# EAGLE library part 613006216921 (library Wurth_Elektronik_Electromechanic_Board_to_Board_Connectors_rev16a)
WR-PHD 2.54mm Dual S. Header Bottom Entry Large, 6 Pins=>Code : Con_BTB_SHD_2.54_2_613006216921 <http://katalog.we-online.de/media/images/eican/Con_BTB_SHD_2.54_2_6130xx216921_pf2.jpg> Details see: http://katalog.we-online.de/en/em/613_0xx_216_921 Created 2014-05-30, Karrer Zheng 2014 (C) Würth Elektronik
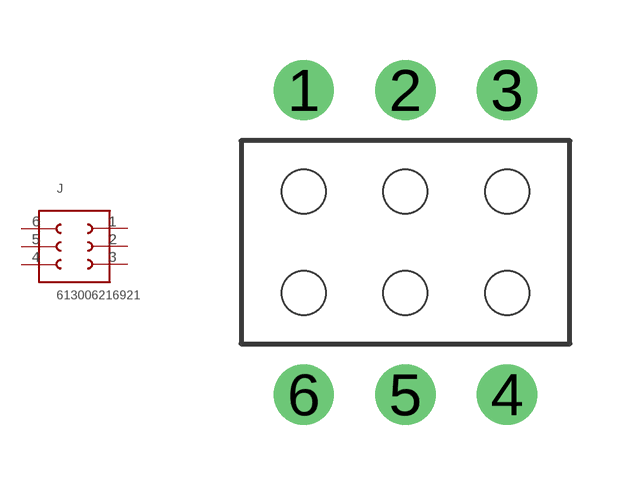
[diagram p168: symbol with the pads of 613006216921; footprint 613006216921]

Designator prefix J

## 613006216921  [613006216921]
1  1  pas
2  2  pas
3  3  pas
4  4  pas
5  5  pas
6  6  pas

## Footprint 613006216921 (pad centres in mm)
WR-PHD 2.54mm Dual S. Header Bottom Entry Large, 6 Pins
drill 1: 1 -3.81,3.81; 2 -1.27,3.81; 3 1.27,3.81; 4 1.27,-3.81; 5 -1.27,-3.81; 6 -3.81,-3.81
hole 1.1 at -3.81,1.27
hole 1.1 at -1.27,1.27
hole 1.1 at 1.27,1.27
hole 1.1 at 1.27,-1.27
hole 1.1 at -1.27,-1.27
hole 1.1 at -3.81,-1.27